# Altium schematic symbol library Passives.SchLib: 4 symbols
Pins are listed as number, name and electrical type; pins without a type are passive.

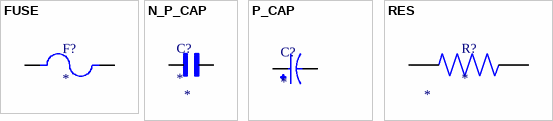
[diagram p0: symbols FUSE to RES]

## FUSE
designator F?
GENERIC FUSE
footprint FUSE_HOLDER_9.7x5
pins: 1, 2

## N_P_CAP
designator C?
GENERIC NON-POLARIZED CAP; Package: *; Value: *
footprint N_P_CAP_0402 (Footprint not found)
footprint N_P_CAP_0603 (Footprint not found)
footprint N_P_CAP_0805 (Footprint not found)
footprint N_P_CAP_1206 (Footprint not found)
pins: 1, 2

## P_CAP
designator C?
GENERIC POLARIZED CAP; MF: Panasonic; MP: EEE-FT1V101AP; SnapEDA_Link: https://www.snapeda.com/parts/EEE-FT1V101AP/Panasonic+Electronic+Components/view-part/?ref=snap; Package: RADIAL-2 Panasonic; Value: *; Check_prices: https://www.snapeda.com/parts/EEE-FT1V101AP/Panasonic+Electronic+Components/view-part/?ref=eda
footprint P_CAP_6.3x5.8 (Footprint not found)
pins: 1, 2

## RES
designator R?
GENERIC RES; Power Rating: *; Tolerance: *; MPN: *; Voltage Rating: *; Temperature Coefficient: *; Package: *; Value: *
footprint RES_0402
footprint RES_0603
footprint RES_0805
footprint RES_1206
pins: 1, 2